# Altium footprint library IPC-7355 QFP_Shrink_Sq_50P_Side_L.PcbLib: 26 footprints (part 3 of 3)
Each footprint in its own frame and in the unit in brackets; x right, y up, seen from the top. Pads: shape width x height; smd on the part's side, far side on the other; paste and mask are expansions set on the pad; w line width, h text height; cw(c..) or ccw(c..) is an arc to the next point about the centre after c.
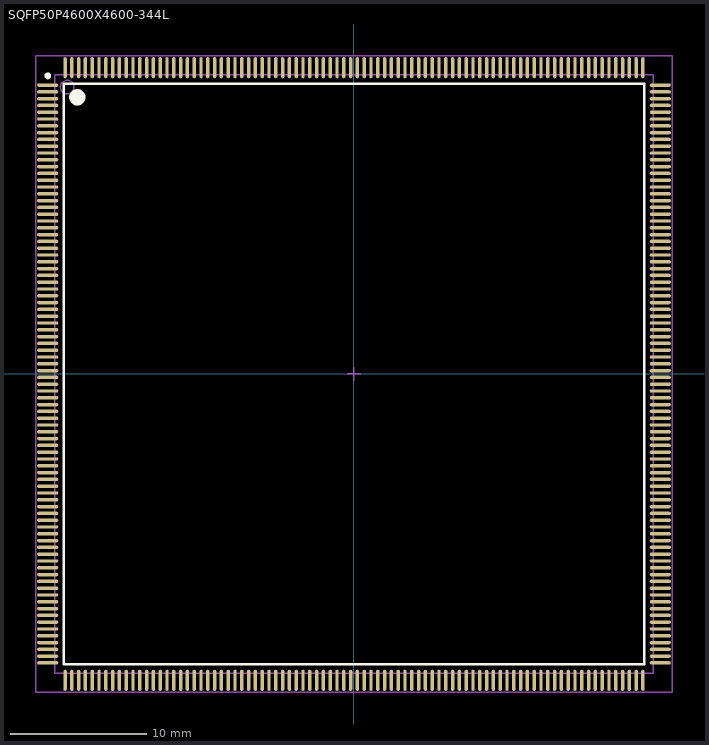
[diagram p2: the footprint, top view; thin cyan lines are the x and y axes]

## SQFP50P4600X4600-344L [mm] "Shrink QFP, 344-Leads, Body 44x44mm, Pitch 0.5mm, IPC High Density"
height 4.2
pads (344):
  oval 1.55x0.25 smd: 1(-22.525,21.25) 2(-22.525,20.75) 3(-22.525,20.25) 4(-22.525,19.75) 5(-22.525,19.25) 6(-22.525,18.75) 7(-22.525,18.25) 8(-22.525,17.75) 9(-22.525,17.25) 10(-22.525,16.75) 11(-22.525,16.25) 12(-22.525,15.75) 13(-22.525,15.25) 14(-22.525,14.75) 15(-22.525,14.25) 16(-22.525,13.75) 17(-22.525,13.25) 18(-22.525,12.75) 19(-22.525,12.25) 20(-22.525,11.75) 21(-22.525,11.25) 22(-22.525,10.75) 23(-22.525,10.25) 24(-22.525,9.75) 25(-22.525,9.25) 26(-22.525,8.75) 27(-22.525,8.25) 28(-22.525,7.75) 29(-22.525,7.25) 30(-22.525,6.75) 31(-22.525,6.25) 32(-22.525,5.75) 33(-22.525,5.25) 34(-22.525,4.75) 35(-22.525,4.25) 36(-22.525,3.75) 37(-22.525,3.25) 38(-22.525,2.75) 39(-22.525,2.25) 40(-22.525,1.75) 41(-22.525,1.25) 42(-22.525,0.75) 43(-22.525,0.25) 44(-22.525,-0.25) 45(-22.525,-0.75) 46(-22.525,-1.25) 47(-22.525,-1.75) 48(-22.525,-2.25) 49(-22.525,-2.75) 50(-22.525,-3.25) 51(-22.525,-3.75) 52(-22.525,-4.25) 53(-22.525,-4.75) 54(-22.525,-5.25) 55(-22.525,-5.75) 56(-22.525,-6.25) 57(-22.525,-6.75) 58(-22.525,-7.25) 59(-22.525,-7.75) 60(-22.525,-8.25) 61(-22.525,-8.75) 62(-22.525,-9.25) 63(-22.525,-9.75) 64(-22.525,-10.25) 65(-22.525,-10.75) 66(-22.525,-11.25) 67(-22.525,-11.75) 68(-22.525,-12.25) 69(-22.525,-12.75) 70(-22.525,-13.25) 71(-22.525,-13.75) 72(-22.525,-14.25) 73(-22.525,-14.75) 74(-22.525,-15.25) 75(-22.525,-15.75) 76(-22.525,-16.25) 77(-22.525,-16.75) 78(-22.525,-17.25) 79(-22.525,-17.75) 80(-22.525,-18.25) 81(-22.525,-18.75) 82(-22.525,-19.25) 83(-22.525,-19.75) 84(-22.525,-20.25) 85(-22.525,-20.75) 86(-22.525,-21.25) 173(22.525,-21.25) 174(22.525,-20.75) 175(22.525,-20.25) 176(22.525,-19.75) 177(22.525,-19.25) 178(22.525,-18.75) 179(22.525,-18.25) 180(22.525,-17.75) 181(22.525,-17.25) 182(22.525,-16.75) 183(22.525,-16.25) 184(22.525,-15.75) 185(22.525,-15.25) 186(22.525,-14.75) 187(22.525,-14.25) 188(22.525,-13.75) 189(22.525,-13.25) 190(22.525,-12.75) 191(22.525,-12.25) 192(22.525,-11.75) 193(22.525,-11.25) 194(22.525,-10.75) 195(22.525,-10.25) 196(22.525,-9.75) 197(22.525,-9.25) 198(22.525,-8.75) 199(22.525,-8.25) 200(22.525,-7.75) 201(22.525,-7.25) 202(22.525,-6.75) 203(22.525,-6.25) 204(22.525,-5.75) 205(22.525,-5.25) 206(22.525,-4.75) 207(22.525,-4.25) 208(22.525,-3.75) 209(22.525,-3.25) 210(22.525,-2.75) 211(22.525,-2.25) 212(22.525,-1.75) 213(22.525,-1.25) 214(22.525,-0.75) 215(22.525,-0.25) 216(22.525,0.25) 217(22.525,0.75) 218(22.525,1.25) 219(22.525,1.75) 220(22.525,2.25) 221(22.525,2.75) 222(22.525,3.25) 223(22.525,3.75) 224(22.525,4.25) 225(22.525,4.75) 226(22.525,5.25) 227(22.525,5.75) 228(22.525,6.25) 229(22.525,6.75) 230(22.525,7.25) 231(22.525,7.75) 232(22.525,8.25) 233(22.525,8.75) 234(22.525,9.25) 235(22.525,9.75) 236(22.525,10.25) 237(22.525,10.75) 238(22.525,11.25) 239(22.525,11.75) 240(22.525,12.25) 241(22.525,12.75) 242(22.525,13.25) 243(22.525,13.75) 244(22.525,14.25) 245(22.525,14.75) 246(22.525,15.25) 247(22.525,15.75) 248(22.525,16.25) 249(22.525,16.75) 250(22.525,17.25) 251(22.525,17.75) 252(22.525,18.25) 253(22.525,18.75) 254(22.525,19.25) 255(22.525,19.75) 256(22.525,20.25) 257(22.525,20.75) 258(22.525,21.25)
  oval 0.25x1.55 smd: 87(-21.25,-22.525) 88(-20.75,-22.525) 89(-20.25,-22.525) 90(-19.75,-22.525) 91(-19.25,-22.525) 92(-18.75,-22.525) 93(-18.25,-22.525) 94(-17.75,-22.525) 95(-17.25,-22.525) 96(-16.75,-22.525) 97(-16.25,-22.525) 98(-15.75,-22.525) 99(-15.25,-22.525) 100(-14.75,-22.525) 101(-14.25,-22.525) 102(-13.75,-22.525) 103(-13.25,-22.525) 104(-12.75,-22.525) 105(-12.25,-22.525) 106(-11.75,-22.525) 107(-11.25,-22.525) 108(-10.75,-22.525) 109(-10.25,-22.525) 110(-9.75,-22.525) 111(-9.25,-22.525) 112(-8.75,-22.525) 113(-8.25,-22.525) 114(-7.75,-22.525) 115(-7.25,-22.525) 116(-6.75,-22.525) 117(-6.25,-22.525) 118(-5.75,-22.525) 119(-5.25,-22.525) 120(-4.75,-22.525) 121(-4.25,-22.525) 122(-3.75,-22.525) 123(-3.25,-22.525) 124(-2.75,-22.525) 125(-2.25,-22.525) 126(-1.75,-22.525) 127(-1.25,-22.525) 128(-0.75,-22.525) 129(-0.25,-22.525) 130(0.25,-22.525) 131(0.75,-22.525) 132(1.25,-22.525) 133(1.75,-22.525) 134(2.25,-22.525) 135(2.75,-22.525) 136(3.25,-22.525) 137(3.75,-22.525) 138(4.25,-22.525) 139(4.75,-22.525) 140(5.25,-22.525) 141(5.75,-22.525) 142(6.25,-22.525) 143(6.75,-22.525) 144(7.25,-22.525) 145(7.75,-22.525) 146(8.25,-22.525) 147(8.75,-22.525) 148(9.25,-22.525) 149(9.75,-22.525) 150(10.25,-22.525) 151(10.75,-22.525) 152(11.25,-22.525) 153(11.75,-22.525) 154(12.25,-22.525) 155(12.75,-22.525) 156(13.25,-22.525) 157(13.75,-22.525) 158(14.25,-22.525) 159(14.75,-22.525) 160(15.25,-22.525) 161(15.75,-22.525) 162(16.25,-22.525) 163(16.75,-22.525) 164(17.25,-22.525) 165(17.75,-22.525) 166(18.25,-22.525) 167(18.75,-22.525) 168(19.25,-22.525) 169(19.75,-22.525) 170(20.25,-22.525) 171(20.75,-22.525) 172(21.25,-22.525) 259(21.25,22.525) 260(20.75,22.525) 261(20.25,22.525) 262(19.75,22.525) 263(19.25,22.525) 264(18.75,22.525) 265(18.25,22.525) 266(17.75,22.525) 267(17.25,22.525) 268(16.75,22.525) 269(16.25,22.525) 270(15.75,22.525) 271(15.25,22.525) 272(14.75,22.525) 273(14.25,22.525) 274(13.75,22.525) 275(13.25,22.525) 276(12.75,22.525) 277(12.25,22.525) 278(11.75,22.525) 279(11.25,22.525) 280(10.75,22.525) 281(10.25,22.525) 282(9.75,22.525) 283(9.25,22.525) 284(8.75,22.525) 285(8.25,22.525) 286(7.75,22.525) 287(7.25,22.525) 288(6.75,22.525) 289(6.25,22.525) 290(5.75,22.525) 291(5.25,22.525) 292(4.75,22.525) 293(4.25,22.525) 294(3.75,22.525) 295(3.25,22.525) 296(2.75,22.525) 297(2.25,22.525) 298(1.75,22.525) 299(1.25,22.525) 300(0.75,22.525) 301(0.25,22.525) 302(-0.25,22.525) 303(-0.75,22.525) 304(-1.25,22.525) 305(-1.75,22.525) 306(-2.25,22.525) 307(-2.75,22.525) 308(-3.25,22.525) 309(-3.75,22.525) 310(-4.25,22.525) 311(-4.75,22.525) 312(-5.25,22.525) 313(-5.75,22.525) 314(-6.25,22.525) 315(-6.75,22.525) 316(-7.25,22.525) 317(-7.75,22.525) 318(-8.25,22.525) 319(-8.75,22.525) 320(-9.25,22.525) 321(-9.75,22.525) 322(-10.25,22.525) 323(-10.75,22.525) 324(-11.25,22.525) 325(-11.75,22.525) 326(-12.25,22.525) 327(-12.75,22.525) 328(-13.25,22.525) 329(-13.75,22.525) 330(-14.25,22.525) 331(-14.75,22.525) 332(-15.25,22.525) 333(-15.75,22.525) 334(-16.25,22.525) 335(-16.75,22.525) 336(-17.25,22.525) 337(-17.75,22.525) 338(-18.25,22.525) 339(-18.75,22.525) 340(-19.25,22.525) 341(-19.75,22.525) 342(-20.25,22.525) 343(-20.75,22.525) 344(-21.25,22.525)
Top Overlay:
  circle w0.6: c-20.35,20.35 r0.3
  circle w0.25: c-22.525,21.925 r0.125
  lines w0.2: -21.35,-21.35 21.35,-21.35 21.35,21.35 -21.35,21.35 -21.35,-21.35
Mechanical 13:
  circle w0.1: c-21.1,21.1 r0.5
  lines w0.1: -22,-22 22,-22 22,22 -22,22 -22,-22
Mechanical 15:
  lines w0.1: -0.5,0 0.5,0 ; 0,-0.5 0,0.5 ; -23.4,-23.4 23.4,-23.4 23.4,23.4 -23.4,23.4 -23.4,-23.4
3D body: height 4.2, standoff 0, extent -22,-22 22,22